# EAGLE library part STM32F10XCXT6 (library Naze32Lib)
ST STM32F101/103 48pin LQFP
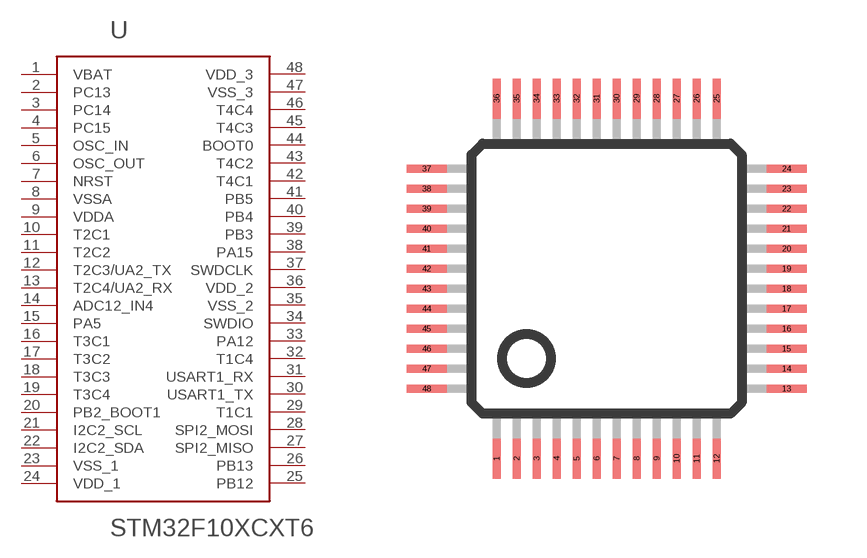
[diagram p0: symbol with the pads of TQFP48; footprint TQFP48]

Designator prefix U

## STM32F10XCXT6  [TQFP48]
1  VBAT
2  PC13
3  PC14
4  PC15
5  OSC_IN
6  OSC_OUT
7  NRST
8  VSSA
9  VDDA
10  T2C1
11  T2C2
12  T2C3/UA2_TX
13  T2C4/UA2_RX
14  ADC12_IN4
15  PA5
16  T3C1
17  T3C2
18  T3C3
19  T3C4
20  PB2_BOOT1
21  I2C2_SCL
22  I2C2_SDA
23  VSS_1
24  VDD_1
25  PB12
26  PB13
27  SPI2_MISO
28  SPI2_MOSI
29  T1C1
30  USART1_TX
31  USART1_RX
32  T1C4
33  PA12
34  SWDIO
35  VSS_2
36  VDD_2
37  SWDCLK
38  PA15
39  PB3
40  PB4
41  PB5
42  T4C1
43  T4C2
44  BOOT0
45  T4C3
46  T4C4
47  VSS_3
48  VDD_3

## Footprint TQFP48 (pad centres in mm)
smd 0.2 x 1: 1 -2.75,-4.5; 2 -2.25,-4.5; 3 -1.75,-4.5; 4 -1.25,-4.5; 5 -0.75,-4.5; 6 -0.25,-4.5; 7 0.25,-4.5; 8 0.75,-4.5; 9 1.25,-4.5; 10 1.75,-4.5; 11 2.25,-4.5; 12 2.75,-4.5; 25 2.75,4.5; 26 2.25,4.5; 27 1.75,4.5; 28 1.25,4.5; 29 0.75,4.5; 30 0.25,4.5; 31 -0.25,4.5; 32 -0.75,4.5; 33 -1.25,4.5; 34 -1.75,4.5; 35 -2.25,4.5; 36 -2.75,4.5
smd 1 x 0.2: 13 4.5,-2.75; 14 4.5,-2.25; 15 4.5,-1.75; 16 4.5,-1.25; 17 4.5,-0.75; 18 4.5,-0.25; 19 4.5,0.25; 20 4.5,0.75; 21 4.5,1.25; 22 4.5,1.75; 23 4.5,2.25; 24 4.5,2.75; 37 -4.5,2.75; 38 -4.5,2.25; 39 -4.5,1.75; 40 -4.5,1.25; 41 -4.5,0.75; 42 -4.5,0.25; 43 -4.5,-0.25; 44 -4.5,-0.75; 45 -4.5,-1.25; 46 -4.5,-1.75; 47 -4.5,-2.25; 48 -4.5,-2.75